# Altium footprint library SDR_wt_PCBlib.PcbLib: 47 footprints (part 3 of 3)
Each footprint in its own frame and in the unit in brackets; x right, y up, seen from the top. Pads: shape width x height; smd on the part's side, far side on the other; paste and mask are expansions set on the pad; w line width, h text height; cw(c..) or ccw(c..) is an arc to the next point about the centre after c.
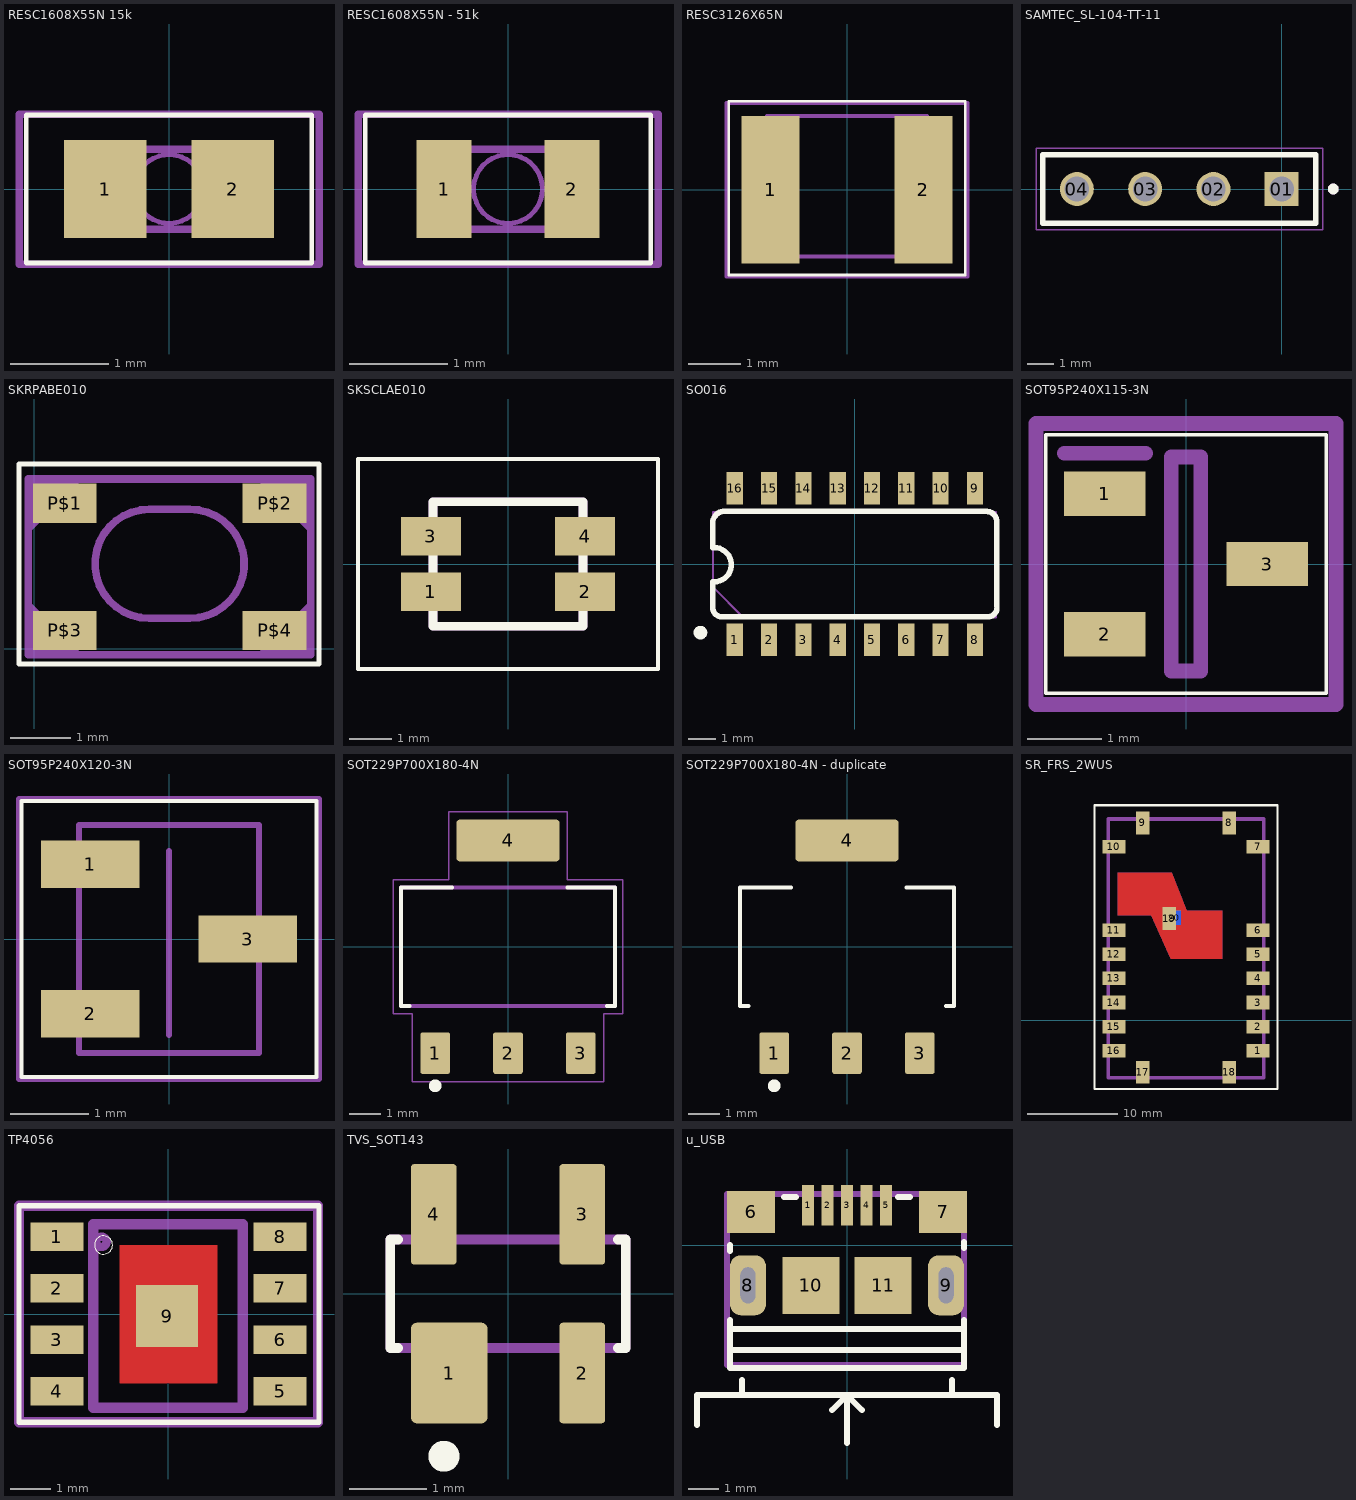
[diagram p2: the footprints below, top view; thin cyan lines are the x and y axes]

## RESC1608X55N 15k [mm]
pads (2):
  rect 0.838x1 smd: 1(-0.65,0) 2(0.65,0)
Top Overlay:
  lines w0.05: -1.45,-0.75 1.45,-0.75 1.45,0.75 -1.45,0.75 -1.45,-0.75
Mechanical 15:
  circle w0.05: c0,0 r0.35
  lines w0.076: -1.524,-0.762 1.524,-0.762 1.524,0.762 -1.524,0.762 -1.524,-0.762
Mechanical 29:
  lines w0.076: -0.813,-0.406 0.813,-0.406 0.813,0.406 -0.813,0.406 -0.813,-0.406
  text "'.Designator'" at -1.448,-0.39 h0.89
3D body "RC0603FR-0715KL.stp": height 0.55, standoff 0, extent -0.8,-0.4 0.8,0.4

## RESC1608X55N - 51k [mm]
pads (2):
  rect 0.559x1 smd: 1(-0.65,0) 2(0.65,0)
Top Overlay:
  lines w0.05: -1.45,-0.75 -1.45,0.75 1.45,0.75 1.45,-0.75 -1.45,-0.75
Mechanical 15:
  circle w0.05: c0,0 r0.35
  lines w0.076: -1.524,-0.762 -1.524,0.762 1.524,0.762 1.524,-0.762 -1.524,-0.762
Mechanical 29:
  lines w0.076: -0.813,-0.406 -0.813,0.406 0.813,0.406 0.813,-0.406 -0.813,-0.406
  text "'.Designator'" at -1.372,-0.322 h0.64
3D body "RC0603FR-0751KL.stp": height 0.55, standoff 0, extent -0.8,-0.4 0.8,0.4

## RESC3126X65N [mm]
pads (2):
  rect 1.1x2.8 smd: 1(-1.45,0) 2(1.45,0)
Top Overlay:
  lines w0.05: -2.25,-1.62 -2.25,1.68 2.25,1.68 2.25,-1.62 -2.25,-1.62
Mechanical 15:
  lines w0.076: -2.286,-1.651 2.286,-1.651 2.286,1.651 -2.286,1.651 -2.286,-1.651
Mechanical 29:
  lines w0.076: -1.524,-1.27 1.524,-1.27 1.524,1.397 -1.524,1.397 -1.524,-1.27
  text "'.Designator'" at -2.086,-0.943 h1.14
3D body "1210W2F330LT5E.stp": height 0.65, standoff 0, extent -1.55,-1.3 1.55,1.3

## SAMTEC_SL-104-TT-11 [mm]
pads (4):
  rect 1.264x1.264 hole 0.914: 01(0,0)
  round 1.264 hole 0.914: 02(-2.54,0) 03(-5.08,0) 04(-7.62,0)
Top Overlay:
  circle w0.2: c1.92,0 r0.1
  lines w0.2: -8.89,-1.27 1.27,-1.27 1.27,1.27 -8.89,1.27 -8.89,-1.27
Mechanical 15:
  lines w0.05: -9.14,-1.52 1.52,-1.52 1.52,1.52 -9.14,1.52 -9.14,-1.52
Mechanical 29:
  circle w0.2: c1.92,0 r0.1
  lines w0.1: -8.89,-1.27 1.27,-1.27 1.27,1.27 -8.89,1.27 -8.89,-1.27
  text "'.Designator'" at -8.69,-0.689 h1.14

## SKRPABE010 [mm]
pads (4):
  rect 1.05x0.65 smd: P$1(0.5,2.4) P$2(3.965,2.4) P$3(0.5,0.3) P$4(3.965,0.3)
Top Overlay:
  lines w0.076: -0.254,-0.254 -0.254,3.048 4.699,3.048 4.699,-0.254 -0.254,-0.254
Mechanical 29:
  region: 0.8,-0.1 -0.1,-0.1 -0.1,0.8
  region: 4.565,-0.1 3.665,-0.1 4.565,0.8
  region: 4.565,1.9 3.665,2.8 4.565,2.8
  region: -0.1,1.9 -0.1,2.8 0.8,2.8
  lines w0.127: -0.1,-0.1 -0.1,2.8 4.565,2.8 4.565,-0.1 -0.1,-0.1 ; 1.9,0.5 cw(c1.9,1.4) 1.9,2.3 2.565,2.3 cw(c2.565,1.4) 2.565,0.5 1.9,0.5
  text "'.Designator'" at 0.2,0.708 h1.14
3D body "skrpabe010.stp": height 2.44, standoff -0.06, extent -0.064,-0.254 4.535,2.946

## SKSCLAE010 [mm]
pads (4):
  rect 1.4x0.9 smd: 1(-1.8,-0.65) 2(1.8,-0.65) 3(-1.8,0.65) 4(1.8,0.65)
Top Overlay:
  lines w0.1: -3.5,-2.45 -3.5,2.45 3.5,2.45 3.5,-2.45 -3.5,-2.45
  lines w0.2: -1.75,-1.45 -1.75,1.45 1.75,1.45 1.75,-1.45 -1.75,-1.45
Mechanical 29:
  lines w0.2: -1.75,-1.45 -1.75,1.45 1.75,1.45 1.75,-1.45 -1.75,-1.45
3D body "SKSCLAE010.stp": height 1.5, standoff 0, extent -2.38,-1.415 2.44,1.485
3D body: height 1.5, standoff 1, extent -0.641,1.484 0.707,2.133

## SO016 [mm]
pads (16):
  rect 0.6x1.2 smd: 1(-4.445,-2.8) 2(-3.175,-2.8) 3(-1.905,-2.8) 4(-0.635,-2.8) 5(0.635,-2.8) 6(1.905,-2.8) 7(3.175,-2.8) 8(4.445,-2.8) 9(4.445,2.8) 10(3.175,2.8) 11(1.905,2.8) 12(0.635,2.8) 13(-0.635,2.8) 14(-1.905,2.8) 15(-3.175,2.8) 16(-4.445,2.8)
Top Overlay:
  circle w0.254: c-5.715,-2.54 r0.127
  lines w0.203: -5.257,-1.668 ccw(c-4.927,-1.615) -4.874,-1.946 ; -5.258,-1.665 -5.258,-0.66 ; -5.258,0.61 -5.258,1.453 ; -5.257,1.463 cw(c-4.827,1.515) -4.88,1.946 ; -5.207,-0.66 ccw(c-5.207,-0.025) -5.207,0.61 ; -4.877,-1.946 4.977,-1.946 ; -4.877,1.946 4.877,1.946 cw(c4.877,1.565) 5.258,1.565 5.258,-1.565 ; 4.979,-1.946 ccw(c4.927,-1.615) 5.257,-1.563
Mechanical 29:
  region: -4.196,2.289 -4.704,2.289 -4.704,3.368 -4.196,3.368
  region: -4.196,-3.299 -4.704,-3.299 -4.704,-2.271 -4.196,-2.271
  region: -2.926,-3.299 -3.434,-3.299 -3.434,-2.271 -2.926,-2.271
  region: -1.656,-3.299 -2.164,-3.299 -2.164,-2.271 -1.656,-2.271
  region: -0.386,-3.299 -0.894,-3.299 -0.894,-2.271 -0.386,-2.271
  region: 0.884,-3.299 0.376,-3.299 0.376,-2.271 0.884,-2.271
  region: 2.154,-3.299 1.646,-3.299 1.646,-2.271 2.154,-2.271
  region: 3.424,-3.299 2.916,-3.299 2.916,-2.271 3.424,-2.271
  region: 4.694,-3.299 4.186,-3.299 4.186,-2.271 4.694,-2.271
  region: -2.926,2.289 -3.434,2.289 -3.434,3.305 -2.926,3.305
  region: -1.656,2.289 -2.164,2.289 -2.164,3.305 -1.656,3.305
  region: -0.386,2.289 -0.894,2.289 -0.894,3.305 -0.386,3.305
  region: 0.884,2.289 0.376,2.289 0.376,3.305 0.884,3.305
  region: 2.154,2.289 1.646,2.289 1.646,3.305 2.154,3.305
  region: 3.424,2.289 2.916,2.289 2.916,3.305 3.424,3.305
  region: 4.694,2.289 4.186,2.289 4.186,3.305 4.694,3.305
  lines w0.076: -5.258,-0.849 -5.258,1.93 5.232,1.93 5.232,-1.981 -4.126,-1.981 -5.258,-0.849
  text "'.Designator'" at -3.762,-0.435 h1.14
3D body "User Library-CH340C.step": height 1.58, standoff 0, extent -4.991,-3.06 4.991,3.175

## SOT95P240X115-3N [mm]
pads (3):
  rect 1.1x0.6 smd: 1(-1.1,0.95) 2(-1.1,-0.95) 3(1.1,0)
Top Overlay:
  lines w0.05: -1.9,-1.75 1.9,-1.75 1.9,1.75 -1.9,1.75 -1.9,-1.75
Mechanical 15:
  lines w0.2: -2.032,-1.905 -2.032,1.905 2.032,1.905 2.032,-1.905 -2.032,-1.905
Mechanical 29:
  lines w0.2: -1.65,1.5 -0.55,1.5 ; -0.2,-1.45 -0.2,1.45 0.2,1.45 0.2,-1.45 -0.2,-1.45
  text "'.Designator'" at -1.959,-1.578 h1.14
3D body "SS8050-G.stp": height 1.15, standoff 0, extent -1.2,-1.45 1.2,1.45

## SOT95P240X120-3N [mm]
pads (3):
  rect 1.25x0.6 smd: 1(-1,0.95) 2(-1,-0.95) 3(1,0)
Top Overlay:
  lines w0.05: -1.875,-1.75 1.875,-1.75 1.875,1.75 -1.875,1.75 -1.875,-1.75
Mechanical 15:
  lines w0.076: -1.905,-1.778 1.905,-1.778 1.905,1.778 -1.905,1.778 -1.905,-1.778
Mechanical 29:
  lines w0.076: 0,-1.219 0,1.118 ; -1.143,-1.448 1.143,-1.448 1.143,1.448 -1.143,1.448 -1.143,-1.448
  text "'.Designator'" at -1.324,-0.689 h1.14
3D body "SI2301.stp": height 1.2, standoff 0, extent -1.2,-1.45 1.2,1.45

## SOT229P700X180-4N [mm]
pads (4):
  rrect15% 0.93x1.31 smd: 1(-2.29,-3.345) 2(0,-3.345) 3(2.29,-3.345)
  rrect15% 3.24x1.31 smd: 4(0,3.345)
Top Overlay:
  circle w0.2: c-2.29,-4.373 r0.1
  lines w0.127: -3.1,-1.86 -3.36,-1.86 -3.36,1.86 -1.76,1.86 ; 1.87,1.86 3.36,1.86 3.36,-1.86 3.11,-1.86
Mechanical 15:
  lines w0.05: -3.61,-2.11 -3.61,2.11 -1.87,2.11 -1.87,4.25 1.87,4.25 1.87,2.11 3.61,2.11 3.61,-2.11 3.01,-2.11 3.01,-4.25 -3.01,-4.25 -3.01,-2.11 -3.61,-2.11
Mechanical 29:
  lines w0.127: -3.36,-1.86 3.36,-1.86 3.36,1.86 -3.36,1.86 -3.36,-1.86
  text "'.Designator'" at -2.508,-0.963 h1.14
3D body "AMS1117-3.3--3DModel-STEP-56544.STEP": height 1.77, standoff -0.04, extent -3.251,-3.499 3.251,3.499

## SOT229P700X180-4N - duplicate [mm]
pads (4):
  rrect15% 0.93x1.31 smd: 1(-2.29,-3.345) 2(0,-3.345) 3(2.29,-3.345)
  rrect15% 3.24x1.31 smd: 4(0,3.345)
Top Overlay:
  circle w0.2: c-2.29,-4.373 r0.1
  lines w0.127: -3.1,-1.86 -3.36,-1.86 -3.36,1.86 -1.76,1.86 ; 1.87,1.86 3.36,1.86 3.36,-1.86 3.11,-1.86
Mechanical 29:
  text "'.Designator'" at -2.543,-0.664 h1.14

## SR_FRS_2WUS [mil]
pads (20):
  rect 100x59.05 smd: 1(1095,-132) 2(1095,-27) 3(1095,78) 4(1095,183) 5(1095,288) 6(1095,393) 7(1095,758) 10(465,758) 11(465,393) 12(465,288) 13(465,183) 14(465,78) 15(465,-27) 16(465,-132)
  rect 59.05x100 smd: 8(970,863) 9(590,863) 17(590,-227) 18(970,-227) 19(706,445)
  rect 60x60 smd far side: 20(728,448)
Top Layer:
  region: 782.78,479.11 937.78,479.11 937.78,269.11 712.78,269.11 627.78,459.11 482.78,459.11 482.78,644.11 717.78,644.11
Bottom Layer:
  region: 782.78,479.11 937.78,479.11 937.78,269.11 712.78,269.11 627.78,459.11 482.78,459.11 482.78,644.11 717.78,644.11
Top Overlay:
  lines w10: 380,-300 1180,-300 1180,940 380,940 380,-300
Top Paste:
  region: 485,643 720,643 785,478 940,478 940,268 715,268 630,458 500,458 485,458 485,463 485,643
  region: 782.78,479.11 937.78,479.11 937.78,269.11 712.78,269.11 627.78,459.11 482.78,459.11 482.78,644.11 717.78,644.11
Bottom Paste:
  region: 485,643 720,643 785,478 940,478 940,268 715,268 630,458 500,458 485,458 485,463 485,643
  region: 782.78,479.11 937.78,479.11 937.78,269.11 712.78,269.11 627.78,459.11 482.78,459.11 482.78,644.11 717.78,644.11
Top Solder:
  region: 782.78,479.11 937.78,479.11 937.78,269.11 712.78,269.11 627.78,459.11 482.78,459.11 482.78,644.11 717.78,644.11
Bottom Solder:
  region: 784.22,478.73 939.22,478.73 939.22,268.73 714.22,268.73 629.22,458.73 484.22,458.73 484.22,643.73 719.22,643.73
Mechanical 29:
  lines w15.75: 440,-250 440,880 1120,880 1120,-250 440,-250
  text "'.Designator'" at 642.87,140.87 h60
3D body: height 122.05, standoff 0, extent 435,-257 1125,888

## TP4056 [mm] "USB_charger"
pads (9):
  rect 1.3x0.7 smd: 1(-2.75,1.905) 2(-2.75,0.635) 3(-2.75,-0.635) 4(-2.75,-1.905) 5(2.75,-1.905) 6(2.75,-0.635) 7(2.75,0.635) 8(2.75,1.905)
  rect 1.524x1.524 smd: 9(-0.033,-0.053)
Top Layer:
  region: 1.2,-1.7 -1.2,-1.7 -1.2,1.7 1.2,1.7
Top Overlay:
  circle w0: c-1.6,1.7 r0.224
  lines w0.127: -3.683,-2.667 3.708,-2.667 3.708,2.667 -3.683,2.667 -3.683,-2.667
Mechanical 15:
  lines w0.254: -3.683,-2.667 3.683,-2.667 3.683,2.667 -3.683,2.667 -3.683,-2.667
Mechanical 29:
  circle w0.203: c-1.651,1.778 r0.127
  lines w0.254: -1.854,-2.311 -1.854,2.21 1.829,2.21 1.829,-2.311 -1.854,-2.311
  text "'.Designator'" at -1.832,-1.07 h1.14
3D body "TP4056 --3DModel-STEP-86487.STEP": height 1.75, standoff 0, extent -3,-2.45 3,2.45

## TVS_SOT143 [mm]
pads (4):
  rrect15% 0.99x1.3 smd: 1(-0.76,-1.025)
  rrect15% 0.59x1.3 smd: 2(0.96,-1.025) 3(0.96,1.025) 4(-0.96,1.025)
Top Overlay:
  circle w0.2: c-0.827,-2.1 r0.1
  lines w0.127: -1.42,-0.7 -1.52,-0.7 -1.52,0.7 -1.42,0.7 ; 1.42,-0.7 1.52,-0.7 1.52,0.7 1.42,0.7
Mechanical 29:
  lines w0.127: -1.52,-0.7 1.52,-0.7 1.52,0.7 -1.52,0.7 -1.52,-0.7
  text "'.Designator'" at -2.823,-0.638 h1.14
3D body "SP0503BAHTG--3DModel-STEP-56544.STEP": height 1.23, standoff 0.01, extent -1.46,-1.185 1.46,1.185

## u_USB [mm]
pads (11):
  rect 0.4x1.35 smd mask+0.05: 1(-1.3,1.338) 2(-0.65,1.338) 3(0,1.338) 4(0.65,1.338) 5(1.3,1.338)
  rect 1.6x1.4 smd: 6(-3.2,1.112)
  rect 1.6x1.4 smd mask+0.05: 7(3.2,1.112)
  rrect60% 1.2x2 hole 0.5 slot 1.2 at 90 deg: 8(-3.3,-1.338) 9(3.3,-1.338)
  rect 1.9x1.9 smd mask+0.05: 10(-1.2,-1.338) 11(1.2,-1.338)
Top Overlay:
  lines w0.2: -5,-6 -5,-5 5,-5 5,-6 ; -3.9,-3.5 3.9,-3.5 ; -3.9,-2.5 -3.9,-4.1 3.9,-4.1 3.9,-2.5 ; -3.9,-0.2 -3.9,0 ; -3.8,-2.8 3.9,-2.8 ; -3.5,-4.9 -3.5,-4.5 ; -2.1,1.6 -1.7,1.6 ; -0.5,-5.5 0,-5 ; 0,-6.6 0,-5 ; 0.5,-5.5 0,-5 ; 1.7,1.6 2.1,1.6 ; 3.5,-4.9 3.5,-4.5 ; 3.9,-0.1 3.9,0.1
Mechanical 29:
  lines w0.2: -4,-4 3.9,-4 3.9,1.7 -4,1.7 -4,-4
  text "'.Designator'" at -3.5,-1.488 h0.64
3D body "u_USB_10118193-0001lfc.stp": height 2.87, standoff -0.73, extent -3.928,-4.062 3.928,1.598